# EAGLE library part MC14490P (library Garagentor)
Hex Contact Bounce Eliminator Check availability <https://pricing.snapeda.com/parts/MC14490P/onsemi/view-part?ref=eda>
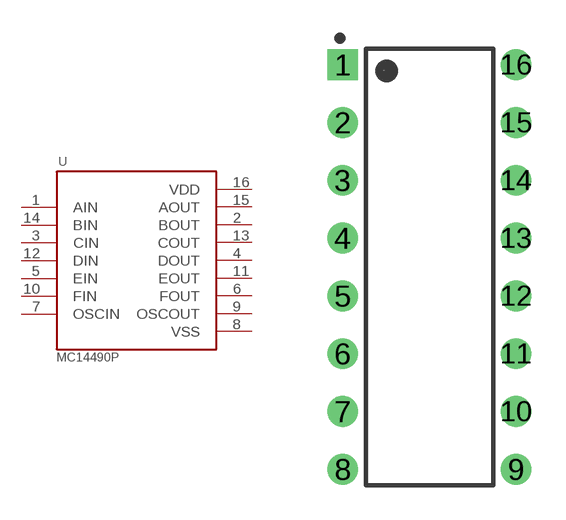
[diagram p2: symbol with the pads of DIP762W46P254L1918H444Q16P; footprint DIP762W46P254L1918H444Q16P]

Designator prefix U

## MC14490P (AVAILABILITY: In Stock; CHECK_PRICES: https://www.snapeda.com/parts/MC14490P/Onsemi/view-part/?ref=eda; DESCRIPTION: IC ELIMINATOR BOUNCE HEX 16DIP; MF: onsemi; MP: MC14490P; PACKAGE: None; PRICE: None; SNAPEDA_LINK: https://www.snapeda.com/parts/MC14490P/Onsemi/view-part/?ref=snap)  [DIP762W46P254L1918H444Q16P]
1  AIN  in
2  BOUT  out
3  CIN  in
4  DOUT  out
5  EIN  in
6  FOUT  out
7  OSCIN  in
8  VSS  pwr
9  OSCOUT  out
10  FIN  in
11  EOUT  out
12  DIN  in
13  COUT  out
14  BIN  in
15  AOUT  out
16  VDD  pwr

## Footprint DIP762W46P254L1918H444Q16P (pad centres in mm)
drill 0.75 pad 1.35 square: 1 -3.81,8.89
drill 0.75 pad 1.35: 2 -3.81,6.35; 3 -3.81,3.81; 4 -3.81,1.27; 5 -3.81,-1.27; 6 -3.81,-3.81; 7 -3.81,-6.35; 8 -3.81,-8.89; 9 3.81,-8.89; 10 3.81,-6.35; 11 3.81,-3.81; 12 3.81,-1.27; 13 3.81,1.27; 14 3.81,3.81; 15 3.81,6.35; 16 3.81,8.89